# Altium footprint library Coil-13x7x5(vert).PcbLib: 1 footprints
Each footprint in its own frame and in the unit in brackets; x right, y up, seen from the top. Pads: shape width x height; smd on the part's side, far side on the other; paste and mask are expansions set on the pad; w line width, h text height; cw(c..) or ccw(c..) is an arc to the next point about the centre after c.
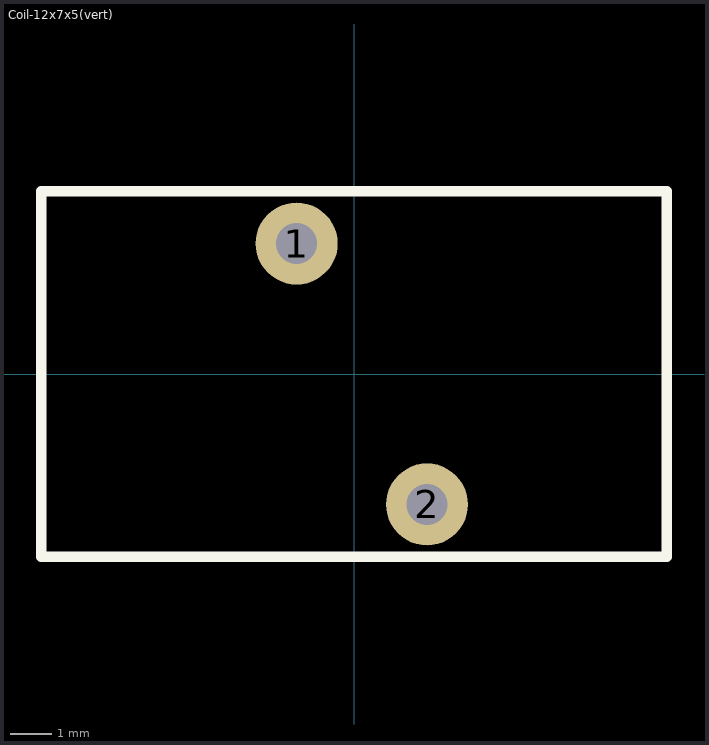
[diagram p0: the footprint, top view; thin cyan lines are the x and y axes]

## Coil-12x7x5(vert) [mm] "Coil-12x7x5(vert)"
pads (2):
  round 2 hole 1: 1(-1.397,3.175) 2(1.778,-3.175)
Top Overlay:
  lines w0.254: -7.62,-4.445 7.62,-4.445 7.62,4.445 -7.62,4.445 -7.62,-4.445
Bottom Overlay:
  lines w0.254: -7.747,-4.572 7.747,-4.572 7.747,4.572 -7.747,4.572 -7.747,-4.572
3D body "Coil-13x7x5(vert).STEP": height 14.2, standoff -4, extent -7.202,-3.525 7.202,3.525